# EAGLE library part 14SEGMENT-2DIGIT (library GW-devices)
14 segment LED display
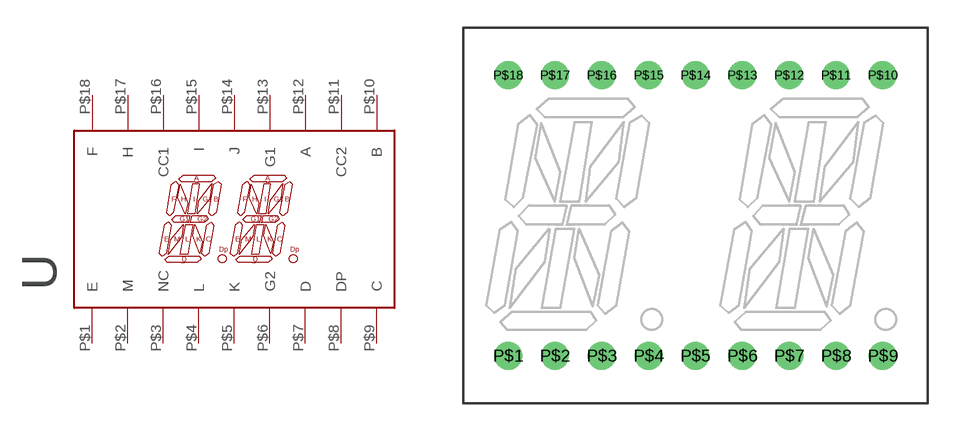
[diagram p39: symbol with the pads of 14SEGMENT-2DIG-.54; footprint 14SEGMENT-2DIG-.54]

Designator prefix -

## 14SEGMENT-2DIGIT-.54  [14SEGMENT-2DIG-.54]
P$1  E
P$2  M
P$3  NC
P$4  L
P$5  K
P$6  G2
P$7  D
P$8  DP
P$9  C
P$10  B
P$11  CC2
P$12  A
P$13  G1
P$14  J
P$15  I
P$16  CC1
P$17  H
P$18  F

## Footprint 14SEGMENT-2DIG-.54 (pad centres in mm)
drill 1: P$1 -10.16,-7.62; P$2 -7.62,-7.62; P$3 -5.08,-7.62; P$4 -2.54,-7.62; P$5 0,-7.62; P$6 2.54,-7.62; P$7 5.08,-7.62; P$8 7.62,-7.62; P$9 10.16,-7.62; P$10 10.16,7.62; P$11 7.62,7.62; P$12 5.08,7.62; P$13 2.54,7.62; P$14 0,7.62; P$15 -2.54,7.62; P$16 -5.08,7.62; P$17 -7.62,7.62; P$18 -10.16,7.62